# EAGLE library part SD_2597 (library customy)
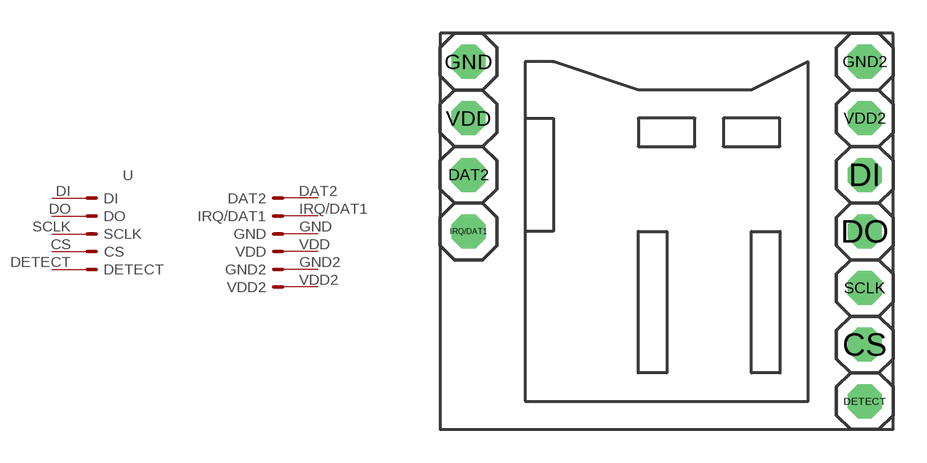
[diagram p8: symbol with the pads of SD; footprint SD]

Designator prefix -

## SD_2597  [SD]
CS  CS
DAT2  DAT2
DETECT  DETECT
DI  DI
DO  DO
GND  GND
GND2  GND2
IRQ/DAT1  IRQ/DAT1
SCLK  SCLK
VDD  VDD
VDD2  VDD2

## Footprint SD (pad centres in mm)
PIN HEADER
drill 1.016 octagon: CS 10.16,-5.08; DAT2 -7.62,2.54; DETECT 10.16,-7.62; DI 10.16,2.54; DO 10.16,0; GND -7.62,7.62; GND2 10.16,7.62; IRQ/DAT1 -7.62,0; SCLK 10.16,-2.54; VDD -7.62,5.08; VDD2 10.16,5.08